# Altium integrated library RF Inductors-MK_rev15a.intlib: 138 symbols (part 2 of 2)
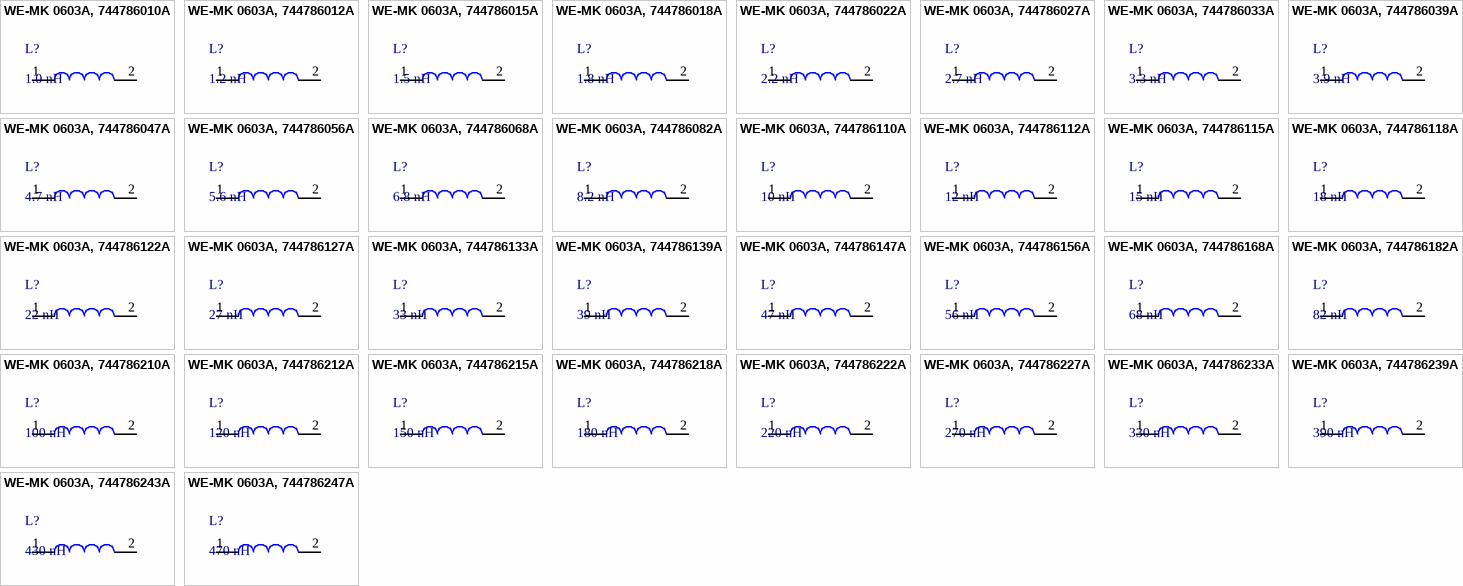
[diagram p5: symbols WE-MK 0603A, 744786010A to WE-MK 0603A, 744786247A]

## WE-MK 0603A, 744786015A
designator L?, comment 1.5 nH
WE-MK Multilayer Ceramic SMD Inductor, Inductance=1.5 nH; partNo: 744786015A; Manufacturer: Wurth Elektronik; Inductance: 1.5 nH; ComponentLink1Description: Manufacturer; ComponentLink1URL: http://www.we-online.de; Created by: Baojun Chen; Created Date: Nov.2015; ComponentLink2Description: Datasheet; ComponentLink2URL: http://katalog.we-online.de/pbs/datasheet/744786015A.pdf
footprint WE-MK_0603A
pins: 1, 2

## WE-MK 0603A, 744786018A
designator L?, comment 1.8 nH
WE-MK Multilayer Ceramic SMD Inductor, Inductance=1.8 nH; partNo: 744786018A; Manufacturer: Wurth Elektronik; Inductance: 1.8 nH; ComponentLink1Description: Manufacturer; ComponentLink1URL: http://www.we-online.de; Created by: Baojun Chen; Created Date: Nov.2015; ComponentLink2Description: Datasheet; ComponentLink2URL: http://katalog.we-online.de/pbs/datasheet/744786018A.pdf
footprint WE-MK_0603A
pins: 1, 2

## WE-MK 0603A, 744786022A
designator L?, comment 2.2 nH
WE-MK Multilayer Ceramic SMD Inductor, Inductance=2.2 nH; partNo: 744786022A; Manufacturer: Wurth Elektronik; Inductance: 2.2 nH; ComponentLink1Description: Manufacturer; ComponentLink1URL: http://www.we-online.de; Created by: Baojun Chen; Created Date: Nov.2015; ComponentLink2Description: Datasheet; ComponentLink2URL: http://katalog.we-online.de/pbs/datasheet/744786022A.pdf
footprint WE-MK_0603A
pins: 1, 2

## WE-MK 0603A, 744786027A
designator L?, comment 2.7 nH
WE-MK Multilayer Ceramic SMD Inductor, Inductance=2.7 nH; partNo: 744786027A; Manufacturer: Wurth Elektronik; Inductance: 2.7 nH; ComponentLink1Description: Manufacturer; ComponentLink1URL: http://www.we-online.de; Created by: Baojun Chen; Created Date: Nov.2015; ComponentLink2Description: Datasheet; ComponentLink2URL: http://katalog.we-online.de/pbs/datasheet/744786027A.pdf
footprint WE-MK_0603A
pins: 1, 2

## WE-MK 0603A, 744786033A
designator L?, comment 3.3 nH
WE-MK Multilayer Ceramic SMD Inductor, Inductance=3.3 nH; partNo: 744786033A; Manufacturer: Wurth Elektronik; Inductance: 3.3 nH; ComponentLink1Description: Manufacturer; ComponentLink1URL: http://www.we-online.de; Created by: Baojun Chen; Created Date: Nov.2015; ComponentLink2Description: Datasheet; ComponentLink2URL: http://katalog.we-online.de/pbs/datasheet/744786033A.pdf
footprint WE-MK_0603A
pins: 1, 2

## WE-MK 0603A, 744786039A
designator L?, comment 3.9 nH
WE-MK Multilayer Ceramic SMD Inductor, Inductance=3.9 nH; partNo: 744786039A; Manufacturer: Wurth Elektronik; Inductance: 3.9 nH; ComponentLink1Description: Manufacturer; ComponentLink1URL: http://www.we-online.de; Created by: Baojun Chen; Created Date: Nov.2015; ComponentLink2Description: Datasheet; ComponentLink2URL: http://katalog.we-online.de/pbs/datasheet/744786039A.pdf
footprint WE-MK_0603A
pins: 1, 2

## WE-MK 0603A, 744786047A
designator L?, comment 4.7 nH
WE-MK Multilayer Ceramic SMD Inductor, Inductance=4.7 nH; partNo: 744786047A; Manufacturer: Wurth Elektronik; Inductance: 4.7 nH; ComponentLink1Description: Manufacturer; ComponentLink1URL: http://www.we-online.de; Created by: Baojun Chen; Created Date: Nov.2015; ComponentLink2Description: Datasheet; ComponentLink2URL: http://katalog.we-online.de/pbs/datasheet/744786047A.pdf
footprint WE-MK_0603A
pins: 1, 2

## WE-MK 0603A, 744786056A
designator L?, comment 5.6 nH
WE-MK Multilayer Ceramic SMD Inductor, Inductance=5.6 nH; partNo: 744786056A; Manufacturer: Wurth Elektronik; Inductance: 5.6 nH; ComponentLink1Description: Manufacturer; ComponentLink1URL: http://www.we-online.de; Created by: Baojun Chen; Created Date: Nov.2015; ComponentLink2Description: Datasheet; ComponentLink2URL: http://katalog.we-online.de/pbs/datasheet/744786056A.pdf
footprint WE-MK_0603A
pins: 1, 2

## WE-MK 0603A, 744786068A
designator L?, comment 6.8 nH
WE-MK Multilayer Ceramic SMD Inductor, Inductance=6.8 nH; partNo: 744786068A; Manufacturer: Wurth Elektronik; Inductance: 6.8 nH; ComponentLink1Description: Manufacturer; ComponentLink1URL: http://www.we-online.de; Created by: Baojun Chen; Created Date: Nov.2015; ComponentLink2Description: Datasheet; ComponentLink2URL: http://katalog.we-online.de/pbs/datasheet/744786068A.pdf
footprint WE-MK_0603A
pins: 1, 2

## WE-MK 0603A, 744786082A
designator L?, comment 8.2 nH
WE-MK Multilayer Ceramic SMD Inductor, Inductance=8.2 nH; partNo: 744786082A; Manufacturer: Wurth Elektronik; Inductance: 8.2 nH; ComponentLink1Description: Manufacturer; ComponentLink1URL: http://www.we-online.de; Created by: Baojun Chen; Created Date: Nov.2015; ComponentLink2Description: Datasheet; ComponentLink2URL: http://katalog.we-online.de/pbs/datasheet/744786082A.pdf
footprint WE-MK_0603A
pins: 1, 2

## WE-MK 0603A, 744786110A
designator L?, comment 10 nH
WE-MK Multilayer Ceramic SMD Inductor, Inductance=10 nH; partNo: 744786110A; Manufacturer: Wurth Elektronik; Inductance: 10 nH; ComponentLink1Description: Manufacturer; ComponentLink1URL: http://www.we-online.de; Created by: Baojun Chen; Created Date: Nov.2015; ComponentLink2Description: Datasheet; ComponentLink2URL: http://katalog.we-online.de/pbs/datasheet/744786110A.pdf
footprint WE-MK_0603A
pins: 1, 2

## WE-MK 0603A, 744786112A
designator L?, comment 12 nH
WE-MK Multilayer Ceramic SMD Inductor, Inductance=12 nH; partNo: 744786112A; Manufacturer: Wurth Elektronik; Inductance: 12 nH; ComponentLink1Description: Manufacturer; ComponentLink1URL: http://www.we-online.de; Created by: Baojun Chen; Created Date: Nov.2015; ComponentLink2Description: Datasheet; ComponentLink2URL: http://katalog.we-online.de/pbs/datasheet/744786112A.pdf
footprint WE-MK_0603A
pins: 1, 2

## WE-MK 0603A, 744786115A
designator L?, comment 15 nH
WE-MK Multilayer Ceramic SMD Inductor, Inductance=15 nH; partNo: 744786115A; Manufacturer: Wurth Elektronik; Inductance: 15 nH; ComponentLink1Description: Manufacturer; ComponentLink1URL: http://www.we-online.de; Created by: Baojun Chen; Created Date: Nov.2015; ComponentLink2Description: Datasheet; ComponentLink2URL: http://katalog.we-online.de/pbs/datasheet/744786115A.pdf
footprint WE-MK_0603A
pins: 1, 2

## WE-MK 0603A, 744786118A
designator L?, comment 18 nH
WE-MK Multilayer Ceramic SMD Inductor, Inductance=18 nH; partNo: 744786118A; Manufacturer: Wurth Elektronik; Inductance: 18 nH; ComponentLink1Description: Manufacturer; ComponentLink1URL: http://www.we-online.de; Created by: Baojun Chen; Created Date: Nov.2015; ComponentLink2Description: Datasheet; ComponentLink2URL: http://katalog.we-online.de/pbs/datasheet/744786118A.pdf
footprint WE-MK_0603A
pins: 1, 2

## WE-MK 0603A, 744786122A
designator L?, comment 22 nH
WE-MK Multilayer Ceramic SMD Inductor, Inductance=22 nH; partNo: 744786122A; Manufacturer: Wurth Elektronik; Inductance: 22 nH; ComponentLink1Description: Manufacturer; ComponentLink1URL: http://www.we-online.de; Created by: Baojun Chen; Created Date: Nov.2015; ComponentLink2Description: Datasheet; ComponentLink2URL: http://katalog.we-online.de/pbs/datasheet/744786122A.pdf
footprint WE-MK_0603A
pins: 1, 2

## WE-MK 0603A, 744786127A
designator L?, comment 27 nH
WE-MK Multilayer Ceramic SMD Inductor, Inductance=27 nH; partNo: 744786127A; Manufacturer: Wurth Elektronik; Inductance: 27 nH; ComponentLink1Description: Manufacturer; ComponentLink1URL: http://www.we-online.de; Created by: Baojun Chen; Created Date: Nov.2015; ComponentLink2Description: Datasheet; ComponentLink2URL: http://katalog.we-online.de/pbs/datasheet/744786127A.pdf
footprint WE-MK_0603A
pins: 1, 2

## WE-MK 0603A, 744786133A
designator L?, comment 33 nH
WE-MK Multilayer Ceramic SMD Inductor, Inductance=33 nH; partNo: 744786133A; Manufacturer: Wurth Elektronik; Inductance: 33 nH; ComponentLink1Description: Manufacturer; ComponentLink1URL: http://www.we-online.de; Created by: Baojun Chen; Created Date: Nov.2015; ComponentLink2Description: Datasheet; ComponentLink2URL: http://katalog.we-online.de/pbs/datasheet/744786133A.pdf
footprint WE-MK_0603A
pins: 1, 2

## WE-MK 0603A, 744786139A
designator L?, comment 39 nH
WE-MK Multilayer Ceramic SMD Inductor, Inductance=39 nH; partNo: 744786139A; Manufacturer: Wurth Elektronik; Inductance: 39 nH; ComponentLink1Description: Manufacturer; ComponentLink1URL: http://www.we-online.de; Created by: Baojun Chen; Created Date: Nov.2015; ComponentLink2Description: Datasheet; ComponentLink2URL: http://katalog.we-online.de/pbs/datasheet/744786139A.pdf
footprint WE-MK_0603A
pins: 1, 2

## WE-MK 0603A, 744786147A
designator L?, comment 47 nH
WE-MK Multilayer Ceramic SMD Inductor, Inductance=47 nH; partNo: 744786147A; Manufacturer: Wurth Elektronik; Inductance: 47 nH; ComponentLink1Description: Manufacturer; ComponentLink1URL: http://www.we-online.de; Created by: Baojun Chen; Created Date: Nov.2015; ComponentLink2Description: Datasheet; ComponentLink2URL: http://katalog.we-online.de/pbs/datasheet/744786147A.pdf
footprint WE-MK_0603A
pins: 1, 2

## WE-MK 0603A, 744786156A
designator L?, comment 56 nH
WE-MK Multilayer Ceramic SMD Inductor, Inductance=56 nH; partNo: 744786156A; Manufacturer: Wurth Elektronik; Inductance: 56 nH; ComponentLink1Description: Manufacturer; ComponentLink1URL: http://www.we-online.de; Created by: Baojun Chen; Created Date: Nov.2015; ComponentLink2Description: Datasheet; ComponentLink2URL: http://katalog.we-online.de/pbs/datasheet/744786156A.pdf
footprint WE-MK_0603A
pins: 1, 2

## WE-MK 0603A, 744786168A
designator L?, comment 68 nH
WE-MK Multilayer Ceramic SMD Inductor, Inductance=68 nH; partNo: 744786168A; Manufacturer: Wurth Elektronik; Inductance: 68 nH; ComponentLink1Description: Manufacturer; ComponentLink1URL: http://www.we-online.de; Created by: Baojun Chen; Created Date: Nov.2015; ComponentLink2Description: Datasheet; ComponentLink2URL: http://katalog.we-online.de/pbs/datasheet/744786168A.pdf
footprint WE-MK_0603A
pins: 1, 2

## WE-MK 0603A, 744786182A
designator L?, comment 82 nH
WE-MK Multilayer Ceramic SMD Inductor, Inductance=82 nH; partNo: 744786182A; Manufacturer: Wurth Elektronik; Inductance: 82 nH; ComponentLink1Description: Manufacturer; ComponentLink1URL: http://www.we-online.de; Created by: Baojun Chen; Created Date: Nov.2015; ComponentLink2Description: Datasheet; ComponentLink2URL: http://katalog.we-online.de/pbs/datasheet/744786182A.pdf
footprint WE-MK_0603A
pins: 1, 2

## WE-MK 0603A, 744786210A
designator L?, comment 100 nH
WE-MK Multilayer Ceramic SMD Inductor, Inductance=100 nH; partNo: 744786210A; Manufacturer: Wurth Elektronik; Inductance: 100 nH; ComponentLink1Description: Manufacturer; ComponentLink1URL: http://www.we-online.de; Created by: Baojun Chen; Created Date: Nov.2015; ComponentLink2Description: Datasheet; ComponentLink2URL: http://katalog.we-online.de/pbs/datasheet/744786210A.pdf
footprint WE-MK_0603A
pins: 1, 2

## WE-MK 0603A, 744786212A
designator L?, comment 120 nH
WE-MK Multilayer Ceramic SMD Inductor, Inductance=120 nH; partNo: 744786212A; Manufacturer: Wurth Elektronik; Inductance: 120 nH; ComponentLink1Description: Manufacturer; ComponentLink1URL: http://www.we-online.de; Created by: Baojun Chen; Created Date: Nov.2015; ComponentLink2Description: Datasheet; ComponentLink2URL: http://katalog.we-online.de/pbs/datasheet/744786212A.pdf
footprint WE-MK_0603A
pins: 1, 2

## WE-MK 0603A, 744786215A
designator L?, comment 150 nH
WE-MK Multilayer Ceramic SMD Inductor, Inductance=150 nH; partNo: 744786215A; Manufacturer: Wurth Elektronik; Inductance: 150 nH; ComponentLink1Description: Manufacturer; ComponentLink1URL: http://www.we-online.de; Created by: Baojun Chen; Created Date: Nov.2015; ComponentLink2Description: Datasheet; ComponentLink2URL: http://katalog.we-online.de/pbs/datasheet/744786215A.pdf
footprint WE-MK_0603A
pins: 1, 2

## WE-MK 0603A, 744786218A
designator L?, comment 180 nH
WE-MK Multilayer Ceramic SMD Inductor, Inductance=180 nH; partNo: 744786218A; Manufacturer: Wurth Elektronik; Inductance: 180 nH; ComponentLink1Description: Manufacturer; ComponentLink1URL: http://www.we-online.de; Created by: Baojun Chen; Created Date: Nov.2015; ComponentLink2Description: Datasheet; ComponentLink2URL: http://katalog.we-online.de/pbs/datasheet/744786218A.pdf
footprint WE-MK_0603A
pins: 1, 2

## WE-MK 0603A, 744786222A
designator L?, comment 220 nH
WE-MK Multilayer Ceramic SMD Inductor, Inductance=220 nH; partNo: 744786222A; Manufacturer: Wurth Elektronik; Inductance: 220 nH; ComponentLink1Description: Manufacturer; ComponentLink1URL: http://www.we-online.de; Created by: Baojun Chen; Created Date: Nov.2015; ComponentLink2Description: Datasheet; ComponentLink2URL: http://katalog.we-online.de/pbs/datasheet/744786222A.pdf
footprint WE-MK_0603A
pins: 1, 2

## WE-MK 0603A, 744786227A
designator L?, comment 270 nH
WE-MK Multilayer Ceramic SMD Inductor, Inductance=270 nH; partNo: 744786227A; Manufacturer: Wurth Elektronik; Inductance: 270 nH; ComponentLink1Description: Manufacturer; ComponentLink1URL: http://www.we-online.de; Created by: Baojun Chen; Created Date: Nov.2015; ComponentLink2Description: Datasheet; ComponentLink2URL: http://katalog.we-online.de/pbs/datasheet/744786227A.pdf
footprint WE-MK_0603A
pins: 1, 2

## WE-MK 0603A, 744786233A
designator L?, comment 330 nH
WE-MK Multilayer Ceramic SMD Inductor, Inductance=330 nH; partNo: 744786233A; Manufacturer: Wurth Elektronik; Inductance: 330 nH; ComponentLink1Description: Manufacturer; ComponentLink1URL: http://www.we-online.de; Created by: Baojun Chen; Created Date: Nov.2015; ComponentLink2Description: Datasheet; ComponentLink2URL: http://katalog.we-online.de/pbs/datasheet/744786233A.pdf
footprint WE-MK_0603A
pins: 1, 2

## WE-MK 0603A, 744786239A
designator L?, comment 390 nH
WE-MK Multilayer Ceramic SMD Inductor, Inductance=390 nH; partNo: 744786239A; Manufacturer: Wurth Elektronik; Inductance: 390 nH; ComponentLink1Description: Manufacturer; ComponentLink1URL: http://www.we-online.de; Created by: Baojun Chen; Created Date: Nov.2015; ComponentLink2Description: Datasheet; ComponentLink2URL: http://katalog.we-online.de/pbs/datasheet/744786239A.pdf
footprint WE-MK_0603A
pins: 1, 2

## WE-MK 0603A, 744786243A
designator L?, comment 430 nH
WE-MK Multilayer Ceramic SMD Inductor, Inductance=430 nH; partNo: 744786243A; Manufacturer: Wurth Elektronik; Inductance: 430 nH; ComponentLink1Description: Manufacturer; ComponentLink1URL: http://www.we-online.de; Created by: Baojun Chen; Created Date: Nov.2015; ComponentLink2Description: Datasheet; ComponentLink2URL: http://katalog.we-online.de/pbs/datasheet/744786243A.pdf
footprint WE-MK_0603A
pins: 1, 2

## WE-MK 0603A, 744786247A
designator L?, comment 470 nH
WE-MK Multilayer Ceramic SMD Inductor, Inductance=470 nH; partNo: 744786247A; Manufacturer: Wurth Elektronik; Inductance: 470 nH; ComponentLink1Description: Manufacturer; ComponentLink1URL: http://www.we-online.de; Created by: Baojun Chen; Created Date: Nov.2015; ComponentLink2Description: Datasheet; ComponentLink2URL: http://katalog.we-online.de/pbs/datasheet/744786247A.pdf
footprint WE-MK_0603A
pins: 1, 2